# EAGLE library part 750343068 (library WE-OLTI)
WE-OLTI Offline Flyback Transformers Characteristics Nominal input voltage: 85–265 VAC (120–375 VDC) Small size Low leakage inductance Multiple-output options Operating temperature: −40 °C to +125 °C Isolation Voltage: 2 kVAC to 5 kVAC Options for fixed frequency or quasi-resonant mode operation Most products meet reinforced insulation Applications Industrial controls USB chargers Utility metering devices Process controls Factory automation Security systems Garage door opener auxiliary supplies Home appliances Especially designed for several ICs from Texas Instruments <https://www.we-online.com/components/media/o814034v209%20UtOLTI%20Group%20CGI.jpg> Details see: www.we-online.com/en/components/products/WE-OLTI <www.we-online.com/catalog/WE-OLTI/?utm_source=eagle_model&utm_medium=description_link&utm_campaign=eisos_eagle> Created by Ella Wu 2025-02-06 2025 (C) Wurth Elektronik
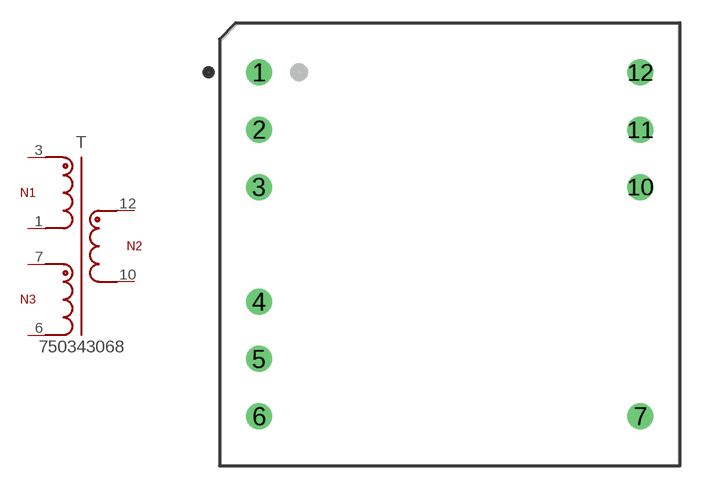
[diagram p11: symbol with the pads of WE-OLTI_PQ2625_L29.2W30.35H29.3; footprint WE-OLTI_PQ2625_L29.2W30.35H29.3]

Designator prefix T

## 750343068 (DATASHEET-URL: https://www.we-online.com/redexpert/spec/750343068?ae; FSWITCH: 65kHz; HEIGHT: 29.3mm; IOUT1: 2500mA; ISAT: 4.4A; L: 230uH; LENGTH: 29.2mm; MOUNT: THT; N: 3.88:1:0.83; PART-NUMBER: 750343068; SIZE: PQ2625; VALUE: 230uH; VAUX: 18V; VIN: 60 - 283 V (AC); VOUT1: 24V; VT: 3000V(AC); WIDTH: 30.35mm)  [WE-OLTI_PQ2625_L29.2W30.35H29.3]
1  P2  pas
3  P1  pas
6  A2  pas
7  A1  pas
10  S2  pas
12  S1  pas

## Footprint WE-OLTI_PQ2625_L29.2W30.35H29.3 (pad centres in mm)
WE-OLTI Offline Flyback Transformers Size: PQ2625,THT,10pins LXWXH=29.2X30.35X29.3 Bobbin: 070-5649
drill 1.15: 1 -12.65,11.4; 2 -12.65,7.6; 3 -12.65,3.8; 4 -12.65,-3.8; 5 -12.65,-7.6; 6 -12.65,-11.4; 7 12.65,-11.4; 10 12.65,3.8; 11 12.65,7.6; 12 12.65,11.4